# Altium schematic symbol library Schlib1.SchLib: 95 symbols (part 1 of 2)
Pins are listed as number, name and electrical type; pins without a type are passive.

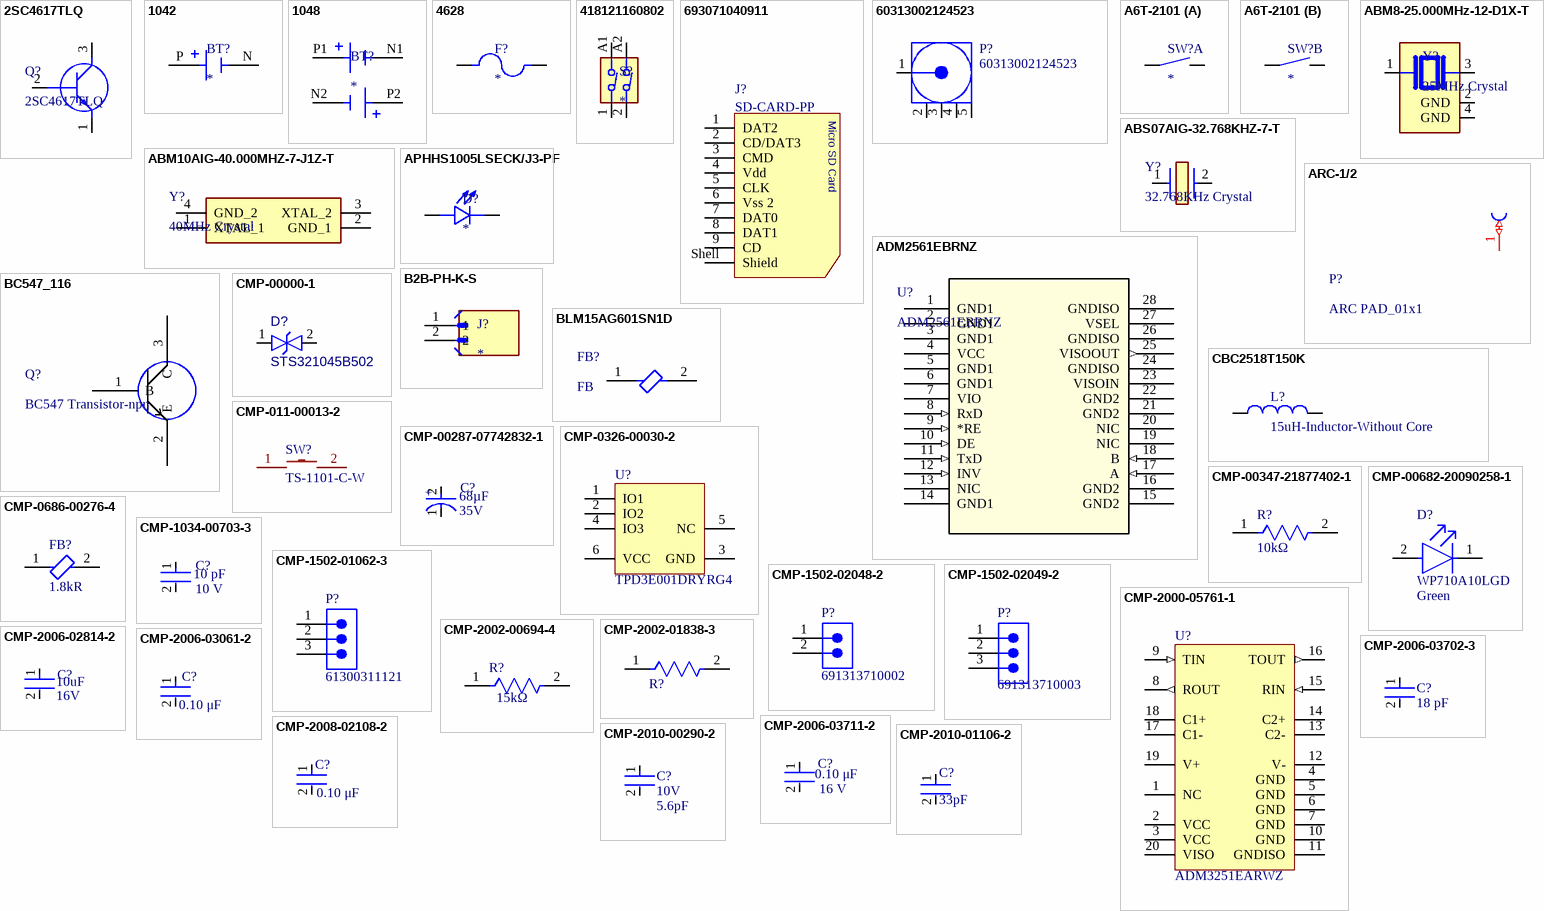
[diagram p0: symbols 2SC4617TLQ to CMP-2010-01106-2]

## 2SC4617TLQ
designator Q?
Transistor BJT NPN-2SC4617TLQ; Manufacturer_Name: ROHM Semiconductor; Datasheet Link: https://fscdn.rohm.com/en/products/databook/datasheet/discrete/transistor/bipolar/2sc4081u3t106r-e.pdf; Height: 0.8mm; Manufacturer_Part_Number: 2SC4617TLQ; Mouser Part Number: 755-2SC4617TLQ; Mouser Price/Stock: https://www.mouser.co.uk/ProductDetail/ROHM-Semiconductor/2SC4617TLQ?qs=4kLU8WoGk0sY2QY7rUsyQw%3D%3D
footprint 2SC4617TLQ
pins: 1 E, 2 B, 3 C

## 1042
designator BT?
SMT Holder for 18650 Battery; MF: Keystone Electronics Corp.; MP: 1042; SnapEDA_Link: https://www.snapeda.com/parts/1042/Keystone/view-part/?ref=snap; Package: NON STANDARD-5 Keystone; Value: *; Check_prices: https://www.snapeda.com/parts/1042/Keystone/view-part/?ref=eda
footprint BAT_1042
pins: N NEG, P POS

## 1048
designator BT?
Battery Holder (Open) 18650 2 Cell SMD (SMT) Tab; MF: Keystone Electronics; MP: 1048; SnapEDA_Link: https://www.snapeda.com/parts/1048/Keystone/view-part/?ref=snap; Package: None; Value: *; Check_prices: https://www.snapeda.com/parts/1048/Keystone/view-part/?ref=eda
footprint BAT_1048
pins: N1, N2, P1, P2

## 4628
designator F?
5mm Slim Line Fuse holder; MF: Keystone; MP: 4628; SnapEDA_Link: https://www.snapeda.com/parts/4628/Keystone/view-part/?ref=snap; Package: None; Value: *; Check_prices: https://www.snapeda.com/parts/4628/Keystone/view-part/?ref=eda
footprint FUSE_4628
pins: 1, 2

## 418121160802
designator S?
Dip Switch SPST 2 Position Surface Mount Slide (Standard) Actuator 25mA 24VDC; MF: WÃ¼rth Elektronik; MP: 418121160802; SnapEDA_Link: https://www.snapeda.com/parts/418121160802/W%25C3%25BCrth+Elektronik+Midcom/view-part/?ref=snap; Package: None; Value: *; Check_prices: https://www.snapeda.com/parts/418121160802/W%25C3%25BCrth+Elektronik+Midcom/view-part/?ref=eda
footprint 418121160802
pins: 1, 2, A1, A2

## 693071040911
designator J?, comment SD-CARD-PP
WR-CRD SD Card Connector Push & Push Socket, 9 pins; Manufacturer Part Number: 693071040911; Manufacturer: Wurth Elektronik; Durability: 10000 Mating cycles; Category: Input/Output Connector; Match Code: WR-CRD; ComponentLink1Description: Website Link; ComponentLink1URL: https://www.we-online.com/redexpert/article/693071040911?ad; ComponentLink2Description: Datasheet Link; ComponentLink2URL: https://www.we-online.com/redexpert/spec/693071040911?ad; Mount: Surface Mount; Min Operating Temperature: -25 °C; Max Operating Temperature: 85 °C; Packaging: Tape and Reel; Application: Micro SD Card; Gender: Socket; Number of Pins: 9; Type: Push & Push
footprint 693071040911
pins: 1 DAT2, 2 CD/DAT3, 3 CMD, 4 Vdd, 5 CLK, 6 Vss 2, 7 DAT0, 8 DAT1, 9 CD, Shell Shield

## 60313002124523
designator P?
WR-SMA Connector, PCB THT Plug, DC~18GHz, 50Ω; Manufacturer: Wurth Elektronik; Center Contact Diameter: 1.27mm; Connector Type: SMA; Interface Type: MIL-STD-348; Manufacturer Part Number: 60313002124523; Category: Coaxial Connector; Match Code: WR-SMA; ComponentLink1Description: Website Link; ComponentLink1URL: https://www.we-online.com/redexpert/article/60313002124523?ad; ComponentLink2Description: Datasheet Link; ComponentLink2URL: https://www.we-online.com/redexpert/spec/60313002124523?ad; Mount: Through Hole; Min Operating Temperature: -65°C; Max Operating Temperature: 165°C; Packaging: Tray; Frequency Range: DC~18GHz; Gender: Plug; Impedance: 50Ω; Orientation: Right Angle
footprint 60313002124523
pins: 1 Signal "Signal Pin", 2 GND, 3 GND, 4 GND, 5 GND

## A6T-2101
designator SW?
Dip Switch SPST 2 Position Through Hole Slide (Standard) Actuator 25mA 24VDC; MF: Omron Electronics; MP: A6T-2101; Package: None; Check_prices: https://www.snapeda.com/parts/A6T-2101/Omron%20Electronics%20Inc-EMC%20Div/view-part/404545/?ref=eda; Value: *; Price: None; Purchase-URL: https://pricing.snapeda.com/search/part/A6T-2101/?ref=eda; Availability: Warning; SnapEDA_Link: https://www.snapeda.com/parts/A6T-2101/Omron%20Electronics%20Inc-EMC%20Div/view-part/404545/?ref=snap
footprint A6T-2101
part A pins: 1 2, 2 1
part B pins: 1 2, 2 1

## ABM8-25.000MHz-12-D1X-T
designator Y?, comment 25MHz Crystal
Crystal 25MHz Â±10ppm (Tol) Â±20ppm (Stability) 12pF FUND 50Ohm 4-Pin Ultra Mini-CSMD T/R; MF: Abracon Corporation; MP: ABM8-25.000MHZ-12-D1X-T; SnapEDA_Link: https://www.snapeda.com/parts/ABM8-25.000MHZ-12-D1X-T/Abracon/view-part/?ref=snap; Package: NON-STANDARD-4 ABRACON; Value: *; Check_prices: https://www.snapeda.com/parts/ABM8-25.000MHZ-12-D1X-T/Abracon/view-part/?ref=eda
footprint XTAL_ABM8-25.000MHz-12-D1X-T
pins: 1, 2 GND (power), 3 2, 4 GND (power)

## ABM10AIG-40.000MHZ-7-J1Z-T
designator Y?, comment 40MHz Crystal
Crystal or Oscillator-40MHz; Manufacturer_Name: ABRACON; Manufacturer_Part_Number: ABM10AIG-40.000MHZ-7-J1Z-T; Datasheet Link: https://abracon.com/AIGcrystals/ABM10AIG.pdf; Height: 0.65mm; Mouser Part Number: 815-M10AIG-40-7J1ZT; Mouser Price/Stock: https://www.mouser.co.uk/ProductDetail/ABRACON/ABM10AIG-40.000MHZ-7-J1Z-T?qs=uwxL4vQweFM9TX6A4vx2XA%3D%3D; Arrow Part Number: ABM10AIG-40.000MHZ-7-J1Z-T; Arrow Price/Stock: https://www.arrow.com/en/products/abm10aig-40.000mhz-7-j1z-t/abracon
footprint ABM10AIG
pins: 1 XTAL_1, 2 GND_1, 3 XTAL_2, 4 GND_2

## ABS07AIG-32.768KHZ-7-T
designator Y?, comment 32.768KHz Crystal
Crystal or Oscillator 32.768khz; Manufacturer_Name: ABRACON; Manufacturer_Part_Number: ABS07AIG-32.768KHZ-7-T; Datasheet Link: https://www.abracon.com/AIGcrystals/ABS07AIG.pdf; Height: 0.9mm; Mouser Part Number: 815-S07AIG-32.768-7T; Mouser Price/Stock: https://www.mouser.co.uk/ProductDetail/ABRACON/ABS07AIG-32.768KHZ-7-T?qs=gG6m684uYP6cjiHguEKjtw%3D%3D; Arrow Part Number: ABS07AIG-32.768KHZ-7-T; Arrow Price/Stock: https://www.arrow.com/en/products/abs07aig-32.768khz-7-t/abracon?utm_currency=USD&region=nac
footprint ABS07AIG
pins: 1, 2

## ADM2561EBRNZ
designator U?
3 kV RMS Signal and Power Isolated RS-485 Transceiver with Â±15 kV IEC ESD; Manufacturer_Name: Analog Devices Inc; Copyright: Copyright (C) 2025 Ultra Librarian. All rights reserved.; Manufacturer_Part_Number: ADM2561EBRNZ; Datasheet: https://www.analog.com/media/en/technical-documentation/data-sheets/adm2561e_adm2563e_adm2565e_adm2567e.pdf; RefDes: RefDes; Type: Type
footprint RN-28-1_ADI-M
pins: 1 GND1 (power), 2 GND1 (power), 3 GND1 (power), 4 VCC (power), 5 GND1 (power), 6 GND1 (power), 7 VIO (power), 8 RxD (in), 9 *RE (in), 10 DE (in), 11 TxD (in), 12 INV (in), 13 NIC, 14 GND1 (power), 15 GND2 (power), 16 GND2 (power), 17 A (in), 18 B (in), 19 NIC (power), 20 NIC, 21 GND2 (power), 22 GND2 (power), 23 VISOIN (power), 24 GNDISO (power), 25 VISOOUT (out), 26 GNDISO (power), 27 VSEL (power), 28 GNDISO (power)

## APHHS1005LSECK/J3-PF
designator D?
Red 625nm LED Indication - Discrete 1.8V 0402 (1005 Metric); MF: Kingbright; MP: APHHS1005LSECK/J3-PF; SnapEDA_Link: https://www.snapeda.com/parts/APHHS1005LSECK/J3-PF/Kingbright/view-part/?ref=snap; Package: 0402 Kingbright Corporation; Value: *; Check_prices: https://www.snapeda.com/parts/APHHS1005LSECK/J3-PF/Kingbright/view-part/?ref=eda
footprint LED_APHHS1005LSECK/J3-PF
pins: 1 C, 2 A

## ARC-1/2
designator P?, comment ARC PAD_01x1
Arc pad     inner radius-5mil
footprint ARC-1/2 (Arc pad     inner radius-5mil 01x1)
pins: 1 (io) "Arc pas 01x1"

## B2B-PH-K-S
designator J?
Connector Header Through Hole 2 position 0.079 (2.00mm); MF: JST Sales America Inc.; MP: B2B-PH-K-S; SnapEDA_Link: https://www.snapeda.com/parts/B2B-PH-K-S/JST/view-part/?ref=snap; Package: None; Value: *; Check_prices: https://www.snapeda.com/parts/B2B-PH-K-S/JST/view-part/?ref=eda
footprint JST_B2B-PH-K-S
pins: 1, 2

## BC547_116
designator Q?, comment BC547 Transistor-npn
BC547-116 Transistor-NPN
footprint SOT95P230X110-3N
pins: 1 B, 2 E, 3 C

## BLM15AG601SN1D
designator FB?, comment FB
600 Ohms @ 100 MHz 1 Ferrite Bead 0402 (1005 Metric) 300mA 520mOhm; Manufacturer_Name: Murata Electronics; Manufacturer_Part_Number: BLM15AG601SN1D; Datasheet Link: http://www.murata.com/~/media/webrenewal/support/library/catalog/products/emc/emifil/c31e.ashx?la=en-gb; Height: 0.55mm; Mouser Part Number: 81-BLM15AG601SN1D; Mouser Price/Stock: https://www.mouser.co.uk/ProductDetail/Murata-Electronics/BLM15AG601SN1D?qs=%2FjCH2pcB5WLSIF5DG9Nbqw%3D%3D; Arrow Part Number: BLM15AG601SN1D; Arrow Price/Stock: https://www.arrow.com/en/products/blm15ag601sn1d/murata-manufacturing?region=nac
footprint NFZ15SG152SN10B
pins: 1, 2

## CBC2518T150K
designator L?, comment 15uH-Inductor-Without Core
15 ÂµH Unshielded Drum Core, Wirewound Inductor 500 mA 845mOhm Max 1007 (2518 Metric); MF: Taiyo Yuden; MP: CBC2518T150K; SnapEDA_Link: https://www.snapeda.com/parts/CBC2518T150K/Taiyo+Yuden/view-part/?ref=snap; Package: 2518 Taiyo Yuden; Value: *; Check_prices: https://www.snapeda.com/parts/CBC2518T150K/Taiyo+Yuden/view-part/?ref=eda
footprint INDC2518X200N
pins: 1, 2

## CMP-00000-1
designator D?, comment STS321045B502
Trans Voltage Suppressor Diode, 2000W, 4.5V V(RWM), Bidirectional, 1 Element, Silicon; Value: 4.5V V(VWM)
footprint DIOM5436X261N
pins: 1 A, 2 A

## CMP-011-00013-2
designator SW?, comment TS-1101-C-W
Tactitle Switch-2-PAD-SMD; Manufacturer: XKB Connectivity(????); Origin Footprint: SW-SMD_L6.0-W3.3-LS8.0; Add into BOM: yes; Pins: 2; Symbol: TS-1101-C-W; Manufacturer Part: TS-1101-C-W; JLCPCB Part Class: Extended Part; Supplier Part: C318938; Design Item ID: TS-1101-C-W; Component Type: Standard; Device: TS-1101-C-W; Source: 4G_GATEWAY_ETHERNET.SCHLIB; link: https://lcsc.com/eda_search?q=C318938&amp;%26type=1&amp;ref=editor; Convert to PCB: yes
footprint TS1101CW
pins: 1, 2

## CMP-00287-07742832-1
designator C?, comment Voltage Rating (DC): 35V  Capacitance: 68µF  (hidden comment: EEEFPV680XAP)
EEEFPV680XAP Aluminum Electrolytic Capacitor, 68 uF, 35 V, ± 20%, 2000 hours @ 105°C, Radial Can - SMD; NexarPartId: 7742832; Ripple Current (AC): 600mA; ESR (Equivalent Series Resistance): 160mΩ; Leakage Current: 16.4µA; Polarity: Polar; Dielectric Material: Aluminium; Termination: SMD/SMT; Lead Free: Lead Free; Height: 7.7mm; Voltage: 35V; Life (Hours): 2000hours; Contact Plating: Tin; Lifecycle Status: Production; Diameter: 6.3mm; Voltage Rating: 35V; Case/Package: Radial; Max Operating Temperature: 105°C; Tolerance: 20%; Schedule B: 8532220020; Mount: PCB, Surface Mount; Radiation Hardening: No; REACH SVHC: No SVHC; Min Operating Temperature: -55°C; Height - Seated (Max): 7.6962mm; RoHS: Compliant; Ripple Current: 600mA; Number of Pins: 2; Packaging: Tape & Reel; Material: Aluminium; Lead Pitch: 1.8mm; Length: 8mm
footprint FP-FPD8-MFG (Aluminum Electrolytic Capacitor, 68 uF, 35 V, ± 20%, 2000 hours @ 105°C, Radial Can - SMD)
pins: 1 C, 2 A
text: +

## CMP-0326-00030-2
designator U?, comment TPD3E001DRYRG4
Low-Capacitance + / - 15 kV ESD-Protection Array for High-Speed Data Interfaces, 3 Channels, -40 to +85 degC, 6-pin SON (DRY), Green (RoHS & no Sb/Br); Manufacturer: Texas Instruments; IEC 61000-4-2 Air-Gap(+/- kV): 15; Breakdown Voltage(Min)(V): 11; SubFamily: ESD Solution; IO Capacitance(Typ)(pF): 1.5; IEC 61000-4-2 Contact(+/- kV): 8; USB High Speed: TRUE; IO Leakage Current(nA): 1; ComponentLink2Description: Datasheet; Mounting Technology: Surface Mount; PartNumber: TPD3E001DRYRG4; ComponentLink1Description: Manufacturer URL; Eco-Plan: Green (RoHS & no Sb/Br); ComponentLink1URL: http://www.ti.com/; PackageDescription: 6-Pin Plastic Small Outline No-Lead, 1 x 1.45 x 0.6 mm Body, 0.5 mm Pitch; PackageVersion: revF, Dec-2011; PackageReference: DRY0006A; DatasheetVersion: SLLS683D; ComponentLink3Description: URL Link1; ComponentLink3URL: SamplesURL:http://www.ti.com/product/tpd3e001#samples; ComponentLink2URL: http://www.ti.com/general/docs/lit/getliterature.tsp?genericPartNumber=TPD3E001&fileType=pdf
footprint DRY0006A
pins: 1 IO1 "ESD-protected channel", 2 IO2 "ESD-protected channel", 3 GND (power) "Ground", 4 IO3 "ESD-protected channel", 5 NC "No connection. Not internally connected.", 6 VCC (power) "Power-supply input. Bypass VCC to GND with a 0.1-uF ceramic capacitor."

## CMP-00347-21877402-1
designator R?, comment Resistance: 10kΩ  (hidden comment: RGC0402DTC10K0)
RGC0402DTC10K0 Res Thick Film 0402 10K Ohm 0.5% 1/16W ±50ppm/°C Molded SMD SMD Paper T/R; NexarPartId: 21877402; Power Rating: 63mW; Schedule B: 8533210045, 8533210045; Max Operating Temperature: 150°C; Case/Package: 0402; RoHS: Compliant; Min Operating Temperature: -55°C; Contact Plating: Tin; Tolerance: 0.5%; Composition: Thick Film; Mount: Surface Mount; Temperature Coefficient: 50ppm/°C
footprint FP-RGC0402-MFG
pins: 1, 2

## CMP-00682-20090258-1
designator D?, comment WP710A10LGD  Illumination Color: Green
WP710A10LGD LED Thru-Hole PCB Green T-1 3mm Green Lens 2 mA 568 nm 2 mcd Round; NexarPartId: 20090258; Number of LEDs: 1; Max Junction Temperature (Tj): 110°C; Viewing Angle: 40°; Reverse Voltage: 5V; Forward Voltage: 1.9V; Dominant Wavelength: 568nm; Luminous Intensity: 2mcd; Power Rating: 62.5mW; Forward Current: 2mA; Lens Style: Diffused, Dome, Round, Tinted; Height: 4.6mm; Mount: Through Hole; Number of Pins: 3; RoHS: Compliant; Max Operating Temperature: 85°C; Min Operating Temperature: -40°C; Lens Color: Green; Wavelength: 568nm; Color: Green; Schedule B: 8541402000, 8541402000; Case/Package: Radial; Power Dissipation: 62.5mW; Lead Free: Lead Free; Test Current: 2mA
footprint FP-WP710A10LGD-MFG
pins: 1 C, 2 A

## CMP-0686-00276-4
designator FB?, comment Impedance: 1.8kR  (hidden comment: BLM15HD182SN1D)
Chip Ferrite Bead, 0402, 1800Ω @ 100MHz, 2.2Ω, 25%, 200mA; Number of Lines: 1; DC Resistance (DCR): 2.2R; Lead Free: Lead Free; Material: Ferrite; REACH SVHC: No SVHC; Current Rating: 200mA; Length: 1mm; Width: 0.5mm; Depth: 0.5mm; Max Operating Temperature: 125°C; Max DC Current: 200mA; Max Current Rating: 200mA; Case Code (Metric): 1005; Package Quantity: 1; Radiation Hardening: No; Number of Pins: 2; Tolerance: 25%; Number of Circuits: 1; Test Frequency: 100MHz; Termination: SMD/SMT; Military Standard: Not; Core Material: Ferrite; Height: 0.5mm; Case Code (Imperial): 0402; Packaging: Tape and Reel; Case/Package: 0402; DC Current: 200mA; Min Operating Temperature: -55°C
footprint FP-BLM15-0_05-MFG
pins: 1, 2

## CMP-1034-00703-3
designator C?, comment Capacitance: 10 pF  Voltage Rating: 10 V  (hidden comment: C0402C100K8GACTU)
10 pF ±10% 10V Ceramic Capacitor C0G, NP0 0402 (1005 Metric); Manufacturer: Kemet; Tolerance: 0.1; Value: 10 pF; Temperature Coefficient: 15%; Digikey Description: CAP CER 10PF 10V NP0 0402; Automotive: No; Octopart: https://octopart.com/c0402c100k8gactu-kemet-12592193; Device Class L1: Passive Components; Temperature Characteristic: C0G; Ipc Land Pattern Name: CAPC10050X50; RoHS: TRUE; Mouser Description: Capacitor, Ceramic, 10Pf, 10Vdc, 10-% Tol, 10+% Tol, C0g-Tc Code, -30, 30Ppm-Tc; Package: C0402-BB; Device Class L2: Capacitors; Lead Free: Yes; Category: Cap; Temperature Range High: +125°C; Material: Ceramic; Manufacturer Part Number: C0402C100K8GACTU; ComponentLink2Description: Datasheet; Temperature: -55°C to +125°C; Height: 0.55mm; Temperature Range Low: -55°C; Device Class L3: Ceramic Capacitors; ComponentLink2URL: https://content.kemet.com/datasheets/KEM_C1002_X7R_SMD.pdf
footprint FP-C0402-BB-MFG
pins: 1, 2

## CMP-1502-01062-3
designator P?, comment 61300311121
Connector Header Through Hole 3 position 0.100" (2.54mm); NexarPartId: 32855521; Current Rating: 3A; Voltage Rating: 250V; Number of Positions: 3; Contact Resistance: 20mΩ; Connector Type: Male Pin; Gender: Male; REACH SVHC: Unknown; Packaging: Bulk; Contact Material: Copper; Pitch: 2.54mm; Min Operating Temperature: -40°C; Number of Rows: 1; Orientation: Vertical; RoHS: Compliant; Contact Plating: Gold; Max Operating Temperature: 105°C; Mount: Through Hole; Height: 8.94mm; Operating Supply Voltage: 250V; Number of Pins: 3; Contact Mating Length: 5.9944mm; Number of Contacts: 3; Color: Black; Lead Free: Lead Free; Lead Pitch: 2.54mm; Termination: Solder
footprint CONN_SD-42375-001_M240_03_MOL (3-PIN HEADER 2.54MM PITCH)
pins: 1, 2, 3

## CMP-1502-02048-2
designator P?, comment 691313710002
2 Position Terminal Block Header, Male Pins, Shrouded (4 Side) 0.197" (5.00mm) 90°, Right Angle Through Hole; NexarPartId: 18818334; Current Rating: 20A; Pitch: 5.0038mm; Number of Contacts: 2; Connector Type: PCB, Terminal Block; Voltage Rating: 300V; Number of Levels: 1; REACH SVHC: Unknown; Max Operating Temperature: 105°C; Termination: Solder; Number of Pins: 2; Contact Material: Brass; Min Operating Temperature: -40°C; Color: Green; Height: 8.7mm; Length: 12.5mm; Mount: Through Hole; Number of Rows: 1; RoHS: Compliant; Number of Positions Per Level: 2; Voltage: 300V; Width: 12mm; Packaging: Box; Current: 20A; Lead Pitch: 5mm; Gender: Male
footprint 691313710002 (Serie 3137 - 5.00mm Close Horizontal PCB Header WR-TBL, 2 pin)
pins: 1, 2

## CMP-1502-02049-2
designator P?, comment 691313710003
3 Position Terminal Block Header, Male Pins, Shrouded (4 Side) 0.197" (5.00mm) 90°, Right Angle Through Hole; NexarPartId: 18818335; Connector Type: PCB, Terminal Block; Current Rating: 20A; Number of Contacts: 3; Voltage: 300V; Pitch: 5.0038mm; Number of Levels: 1; Packaging: Box; REACH SVHC: Unknown; Mount: Through Hole; RoHS: Compliant; Termination: Solder; Color: Green; Max Operating Temperature: 105°C; Height: 8.7mm; Lead Pitch: 5mm; Current: 20A; Width: 17mm; Voltage Rating: 300V; Length: 12.5mm; Number of Rows: 1; Contact Material: Brass; Gender: Male; Number of Positions Per Level: 3; Number of Pins: 3; Min Operating Temperature: -40°C
footprint 691313710003 (Serie 3137 - 5.00mm Close Horizontal PCB Header WR-TBL, 3 pin)
pins: 1, 2, 3

## CMP-2000-05761-1
designator U?, comment ADM3251EARWZ
Isolated, Single-Channel RS-232 Line Driver/Receiver, 5 V, -40 to 85 degC, 20-Pin SOIC (RW-20), RoHS, Tube; Manufacturer: Analog Devices; Single Supply Voltage (Typ): 5V; Supply Current: 145mA; Number of Transceivers: 1; Single Supply Voltage (Min): 4.5V; Data Rate: 460Kbps; Data Transmission Topology: Point-to-Point; Package Version: 060706-A, 06/2006; Single Supply Voltage (Max): 5.5V; Dual Supply Voltage (Min): NotRequiredV; Power Supply Requirement: Single; Receiver Signal Type: Single-Ended; Interface Circuit Standard 1: EIA/TIA-232-E/RS-232; Manufacturer URL: http://www.analog.com/; Pin Count: 20; Package URL: http://www.analog.com/static/imported-files/packages/233848RW_20.pdf; Operating Temperature Classification: Industrial; Datasheet Version: Rev. G, 10/2013; Packaging: Rail/Tube; Number of Receivers: 1; Package Reference: RW-20; Dual Supply Voltage (Max): NotRequiredV; Mounting: SurfaceMount; Dual Supply Voltage (Typ): NotRequiredV; Package Type: SOICW; Number of Transmitters: 1; Datasheet URL: http://www.analog.com/media/en/technical-documentation/data-sheets/ADM3251E.pdf; Transmitter Signal Type: Single-Ended; Operating Temp Range: -40Cto85C; Package Description: 20-Pin Standard Small Outline Package, Body 12.8 x 7.5 mm, Pitch 1.27 mm; Mounting Technology: SurfaceMount
footprint ADI-RW-20_L (SOIC, 20-Leads, Body 12.8x7.5mm, Pitch 1.27mm, IPC High Density)
pins: 1 NC "No Connect. This pin should always remain unconnected.", 2 VCC (power) "Power Supply Input. A 0.1 uF decoupling capacitor is required between VCC and ground. When a voltage between 4.5 V and 5.5 V is applied to the VCC pin, the integrated dc-to-dc converter is enabled. If this voltage is lowered (See Datasheet)", 3 VCC (power) "Power Supply Input. A 0.1 uF decoupling capacitor is required between VCC and ground. When a voltage between 4.5 V and 5.5 V is applied to the VCC pin, the integrated dc-to-dc converter is enabled. If this voltage is lowered (See Datasheet)", 4 GND (power) "Ground.", 5 GND (power) "Ground.", 6 GND (power) "Ground.", 7 GND (power) "Ground.", 8 ROUT (out) "Receiver Output. This pin outputs CMOS logic levels.", 9 TIN (in) "Transmitter (Driver) Input. This pin accepts CMOS levels.", 10 GND (power) "Ground.", 11 GNDISO (power) "Ground Reference for Isolated RS-232 Side.", 12 V- (power) "Internally Generated Negative Supply.", 13 C2- "Positive and Negative Connections for Charge Pump Capacitors. External Capacitor C2 is connected between these pins; a 0.1 uF capacitor is recommended, but larger capacitors up to 10 uF can be used.", 14 C2+ "Positive and Negative Connections for Charge Pump Capacitors. External Capacitor C2 is connected between these pins; a 0.1 uF capacitor is recommended, but larger capacitors up to 10 uF can be used.", 15 RIN (in) "Receiver Input. This input accepts RS-232 signal levels.", 16 TOUT (out) "Transmitter (Driver) Output. This outputs RS-232 signal levels.", 17 C1- "Positive and Negative Connections for Charge Pump Capacitors. External Capacitor C1 is connected between these pins; a 0.1 uF capacitor is recommended, but larger capacitors up to 10 uF can be used.", 18 C1+ "Positive and Negative Connections for Charge Pump Capacitors. External Capacitor C1 is connected between these pins; a 0.1 uF capacitor is recommended, but larger capacitors up to 10 uF can be used.", 19 V+ (power) "Internally Generated Positive Supply.", 20 VISO (power) "Isolated Supply Voltage for Isolator Secondary Side. A 0.1 uF decoupling capacitor is required between VISO and ground. When the integrated dc-to-dc converter is enabled, the VISO pin should not be used to power external (See Datasheet)"

## CMP-2002-00694-4
designator R?, comment value 15kΩ  (hidden comment: ERJ-2RKF1502X)
15 kOhms ±1% 0.1W, 1/10W Chip Resistor 0402 (1005 Metric) Automotive AEC-Q200 Thick Film; Manufacturer: Panasonic; Automotive Grade: Grade 0; Voltage Rating: 50V; Temperature Coefficient: 100ppm/°C; ComponentLink2URL: https://industrial.panasonic.com/cdbs/www-data/pdf/RDA0000/AOA0000C304.pdf; Automotive: Yes; Temperature: -55°C to +155°C; Height: 0.4mm; Digikey Description: RES SMD 15K OHM 1% 1/10W 0402; Category: Res; Device Class L2: Resistors; Device Class L1: Passive Components; Package: ERJ2R; Temperature Range Low: -55°C; Tolerance: 1%; Series: ERJ; Manufacturer Part Number: ERJ-2RKF1502X; Footprint Url: https://b2b-api.panasonic.eu/file_stream/pids/fileversion/1180; Mouser Description: Res Thick Film 1.0 x 0.5 mm 15K Ohm 1% 0.1W(1/10W) 100ppm/ C Molded SMD Punched Carrier T/R; Composition: Thick Film; Lead Free: Yes; Device Class L3: Chip SMD Resistors; Resistance: 15kΩ; Octopart: https://octopart.com/erj-2rkf1502x-panasonic-55404985; RoHS: TRUE; Power Rating: 0.1W; Temperature Range High: +155°C; ComponentLink2Description: Datasheet
footprint FP-ERJ2R-MFG
pins: 1, 2

## CMP-2002-01838-3
designator R?, comment AC0402JR-070RL  (value not drawn)
0 Ohms Jumper Chip Resistor 0402 (1005 Metric) Automotive AEC-Q200, Moisture Resistant Thick Film; Resistance: 0R; Temperature Coefficient: 200ppm/°C; Voltage Rating: 50V; Max Power Dissipation: 63mW; Power Rating: 62.5mW; Tolerance: 5%; Min Operating Temperature: -55°C; RoHS Compliant: Yes; Width: 0.02inch; Height: 0.015inch; Size Code: 0402; Lead Free: Lead Free; Termination: SMD/SMT; Ratings: AEC-Q200; Package Quantity: 1; Number of Terminations: 2; Case Code (Metric): 1005; Case Code (Imperial): 0402; Resistor Type: Thick Film; Features: Moisture Resistant; Length: 0.039inch; Max Operating Temperature: 155°C; Packaging: Tape and Reel; Series: AC; Case/Package: 0402
footprint FP-AC0402-IPC_A
pins: 1, 2

## CMP-2006-02814-2
designator C?, comment Capacitance: 10uF  Voltage Rating: 16V  (hidden comment: GRM188R61C106MA73D)
Chip Multilayer Ceramic Capacitors for General Purpose, 0603, 10uF, X5R, 15%, 20%, 16V; Width: 0.031inch; Case/Package: 0603; Mount: Surface Mount; Depth: 0.8mm; REACH SVHC: No SVHC; Lead Free: Lead Free; Tolerance: 20%; Case Code (Imperial): 0603; Height: 0.8mm; Case Code (Metric): 1608; Thickness: 0.031inch; Voltage: 16V; Voltage Rating (DC): 16V; Length: 1.6mm; Max Operating Temperature: 85°C; Dielectric: X5R; Min Operating Temperature: -55°C; Packaging: Tape and Reel; Package Quantity: 4000
footprint FP-GRM188-0_2-IPC_A
pins: 1, 2

## CMP-2006-03061-2
designator C?, comment Capacitance: 0.10 μF  (hidden comment: C0603C104K5RACTU)
0.1 µF ±10% 50V Ceramic Capacitor X7R 0603 (1608 Metric); Manufacturer: KEMET; Tolerance: 0.1; Temperature Coefficient: 30ppm/°C; Automotive Grade: Grade 1; Value: 0.10 μF; Temperature: -55°C to +125°C; RoHS: TRUE; Material: Ceramic; Temperature Range High: +125°C; Lead Free: Yes; Octopart: https://octopart.com/c0603c104k5ractu-kemet-139244; Digikey Description: CAP CER 0.1UF 50V X7R 0603; Category: Cap; Package: C0603C-CF; ComponentLink2Description: Datasheet; Temperature Range Low: -55°C; Device Class L1: Passive Components; Voltage Rating: 50 V; Automotive: Yes; Device Class L3: Ceramic Capacitors; ComponentLink2URL: https://api.kemet.com/component-edge/download/datasheet/C0603C100J5GACAUTO.pdf; Device Class L2: Capacitors; Manufacturer Part Number: C0603C104K5RACTU; Temperature Characteristic: X7R; Height: 0.87mm
footprint FP-C0603C-CF-MFG
footprint FP-C0603C-CF-IPC_C
footprint FP-C0603C-CF-IPC_B
footprint FP-C0603C-CF-IPC_A
pins: 1, 2

## CMP-2006-03702-3
designator C?, comment value 18 pF  (hidden comment: C0603C180J5GACTU)
18 pF ±5% 50V Ceramic Capacitor C0G, NP0 0603 (1608 Metric); Manufacturer: KEMET; Automotive Grade: Grade 1; Tolerance: 0.05; Temperature Coefficient: 30ppm/°C; ComponentLink2URL: https://api.kemet.com/component-edge/download/datasheet/C0603C100J5GACAUTO.pdf; Capacitance: 18 pF; Device Class L3: Ceramic Capacitors; Digikey Description: CAP CER 18PF 50V C0G/NP0 0603; RoHS: TRUE; Category: Cap; Temperature Range Low: -55°C; Lead Free: Yes; Device Class L1: Passive Components; Device Class L2: Capacitors; Package: C0603C-CF; Manufacturer Part Number: C0603C180J5GACTU; Mouser Description: Capacitor; Ceramic; Cap; 18.0pF; Tol 5%; SMT; Vol-Rtg 50V; C0G; Tape and Reel; Temperature Range High: +125°C; Temperature: -55°C to +125°C; Octopart: https://octopart.com/c0603c180j5gactu-kemet-97992; ComponentLink2Description: Datasheet; Temperature Characteristic: C0G; Automotive: Yes; Material: Ceramic; Voltage Rating: 50 V; Height: 0.87mm
footprint FP-C0603C-CF-MFG
footprint FP-C0603C-CF-IPC_C
footprint FP-C0603C-CF-IPC_B
footprint FP-C0603C-CF-IPC_A
pins: 1, 2

## CMP-2006-03711-2
designator C?, comment Voltage Rating: 16 V  Capacitance: 0.10 μF  (hidden comment: C0603C104K4RACAUTO)
0.1 µF ±10% 16V Ceramic Capacitor X7R 0603 (1608 Metric); Manufacturer: KEMET; Temperature Coefficient: 30ppm/°C; Value: 0.10 μF; Tolerance: 0.1; Automotive Grade: Grade 1; Device Class L2: Capacitors; Device Class L3: Ceramic Capacitors; Package: C0603C-CF; Temperature: -55°C to +125°C; Octopart: https://octopart.com/c0603c104k4racauto-kemet-16435919; Height: 0.87mm; RoHS: TRUE; Temperature Characteristic: X7R; Lead Free: Yes; Automotive: Yes; Material: Ceramic; Device Class L1: Passive Components; Mouser Description: Multilayer Ceramic Capacitors MLCC - SMD/SMT 0.1uF 16volts 10% X7R AUTO; Temperature Range High: +125°C; Temperature Range Low: -55°C; ComponentLink2Description: Datasheet; Manufacturer Part Number: C0603C104K4RACAUTO; Digikey Description: CAP CER 0.1UF 16V X7R 0603; ComponentLink2URL: https://api.kemet.com/component-edge/download/datasheet/C0603C100J5GACAUTO.pdf; Category: Cap
footprint FP-C0603C-CF-MFG
pins: 1, 2

## CMP-2008-02108-2
designator C?, comment Capacitance: 0.10 μF  (hidden comment: C0402C104K4RACTU)
0.1 µF ±10% 16V Ceramic Capacitor X7R 0402 (1005 Metric); Manufacturer: Kemet; Value: 0.10 μF; Tolerance: 0.1; Temperature Coefficient: 15%; Voltage Rating: 16 V; Package: C0402-BB; Automotive: No; Ipc Land Pattern Name: CAPC10050X50; Device Class L3: Ceramic Capacitors; Octopart: https://octopart.com/c0402c104k4ractu-kemet-94158; Temperature Characteristic: X7R; Mouser Description: Cap Ceramic 0.1uF 16V X7R 10% SMD 0402 125?C Paper T/R - Tape and Reel (Alt: C0402C104K4RAC TU); ComponentLink2Description: Datasheet; Temperature Range Low: -55°C; RoHS: TRUE; Device Class L1: Passive Components; Manufacturer Part Number: C0402C104K4RACTU; Material: Ceramic; Temperature Range High: +125°C; Device Class L2: Capacitors; ComponentLink2URL: https://content.kemet.com/datasheets/KEM_C1002_X7R_SMD.pdf; Category: Cap; Height: 0.55mm; Temperature: -55°C to +125°C; Lead Free: Yes; Digikey Description: CAP CER 0.1UF 16V X7R 0402
footprint FP-C0402-BB-MFG
footprint FP-C0402-BB-IPC_C
footprint FP-C0402-BB-IPC_B
footprint FP-C0402-BB-IPC_A
pins: 1, 2

## CMP-2010-00290-2
designator C?, comment Voltage Rating: 10V  Capacitance: 5.6pF  (hidden comment: 0201ZK5R6BBSTR)
5.6 pF Thin Film Capacitor 10 V 0201 (0603 Metric); Manufacturer: AVX Corporation; Automotive Grade: Grade 1; Life: 1000Hours; Value: 5.6pF; Tolerance: 0.1pF; Material: Silicon; Temperature Coefficient: 60ppm/°C; Manufacturer Part Number: 0201ZK5R6BBSTR; Temperature: -55°C to +125°C; Device Class L1: Passive Components; Device Class L3: Silicon; ComponentLink2URL: http://datasheets.avx.com/Accu-P.pdf; Temperature Range Low: -55°C; Device Class L2: Capacitors; Ipc Land Pattern Name: CAPC6033X23; Lead Free: Yes; Mouser Description: Multilayer Ceramic Capacitors MLCC - SMD/SMT 10V 5.6pF ThnFlm0201 .1pF Tol; Category: Cap; ComponentLink2Description: Datasheet; Octopart: https://octopart.com/0201zk5r6bbstr-avx-596551; RoHS: TRUE; Automotive: Yes; Height: 0.275mm; Package: 0; Temperature Range High: +125°C; Digikey Description: CAP THIN FILM 5.6PF 10V 0201
footprint FP-0201ZK5R6BBSTR-MFG
pins: 1, 2

## CMP-2010-01106-2
designator C?, comment Capacitance: 33pF  (hidden comment: GRM0335C1H330JA01D)
33 pF ±5% 50V Ceramic Capacitor C0G, NP0 0201 (0603 Metric); Termination: SMD/SMT; Case/Package: 0201; Voltage Rating (DC): 50V; Width: 0.3mm; Depth: 0.3mm; Package Quantity: 15000; Lead Free: Lead Free; Dielectric: C0G; Thickness: 0.013inch; Max Operating Temperature: 125°C; Case Code (Metric): 0603; Radiation Hardening: No; Voltage: 50V; Case Code (Imperial): 0201; Mount: Surface Mount; Min Operating Temperature: -55°C; Height: 0.3mm; Tolerance: 5%; Voltage Rating: 50V; Packaging: Tape and Reel; Length: 0.6mm
footprint FP-GRM033-0_03-IPC_A
pins: 1, 2

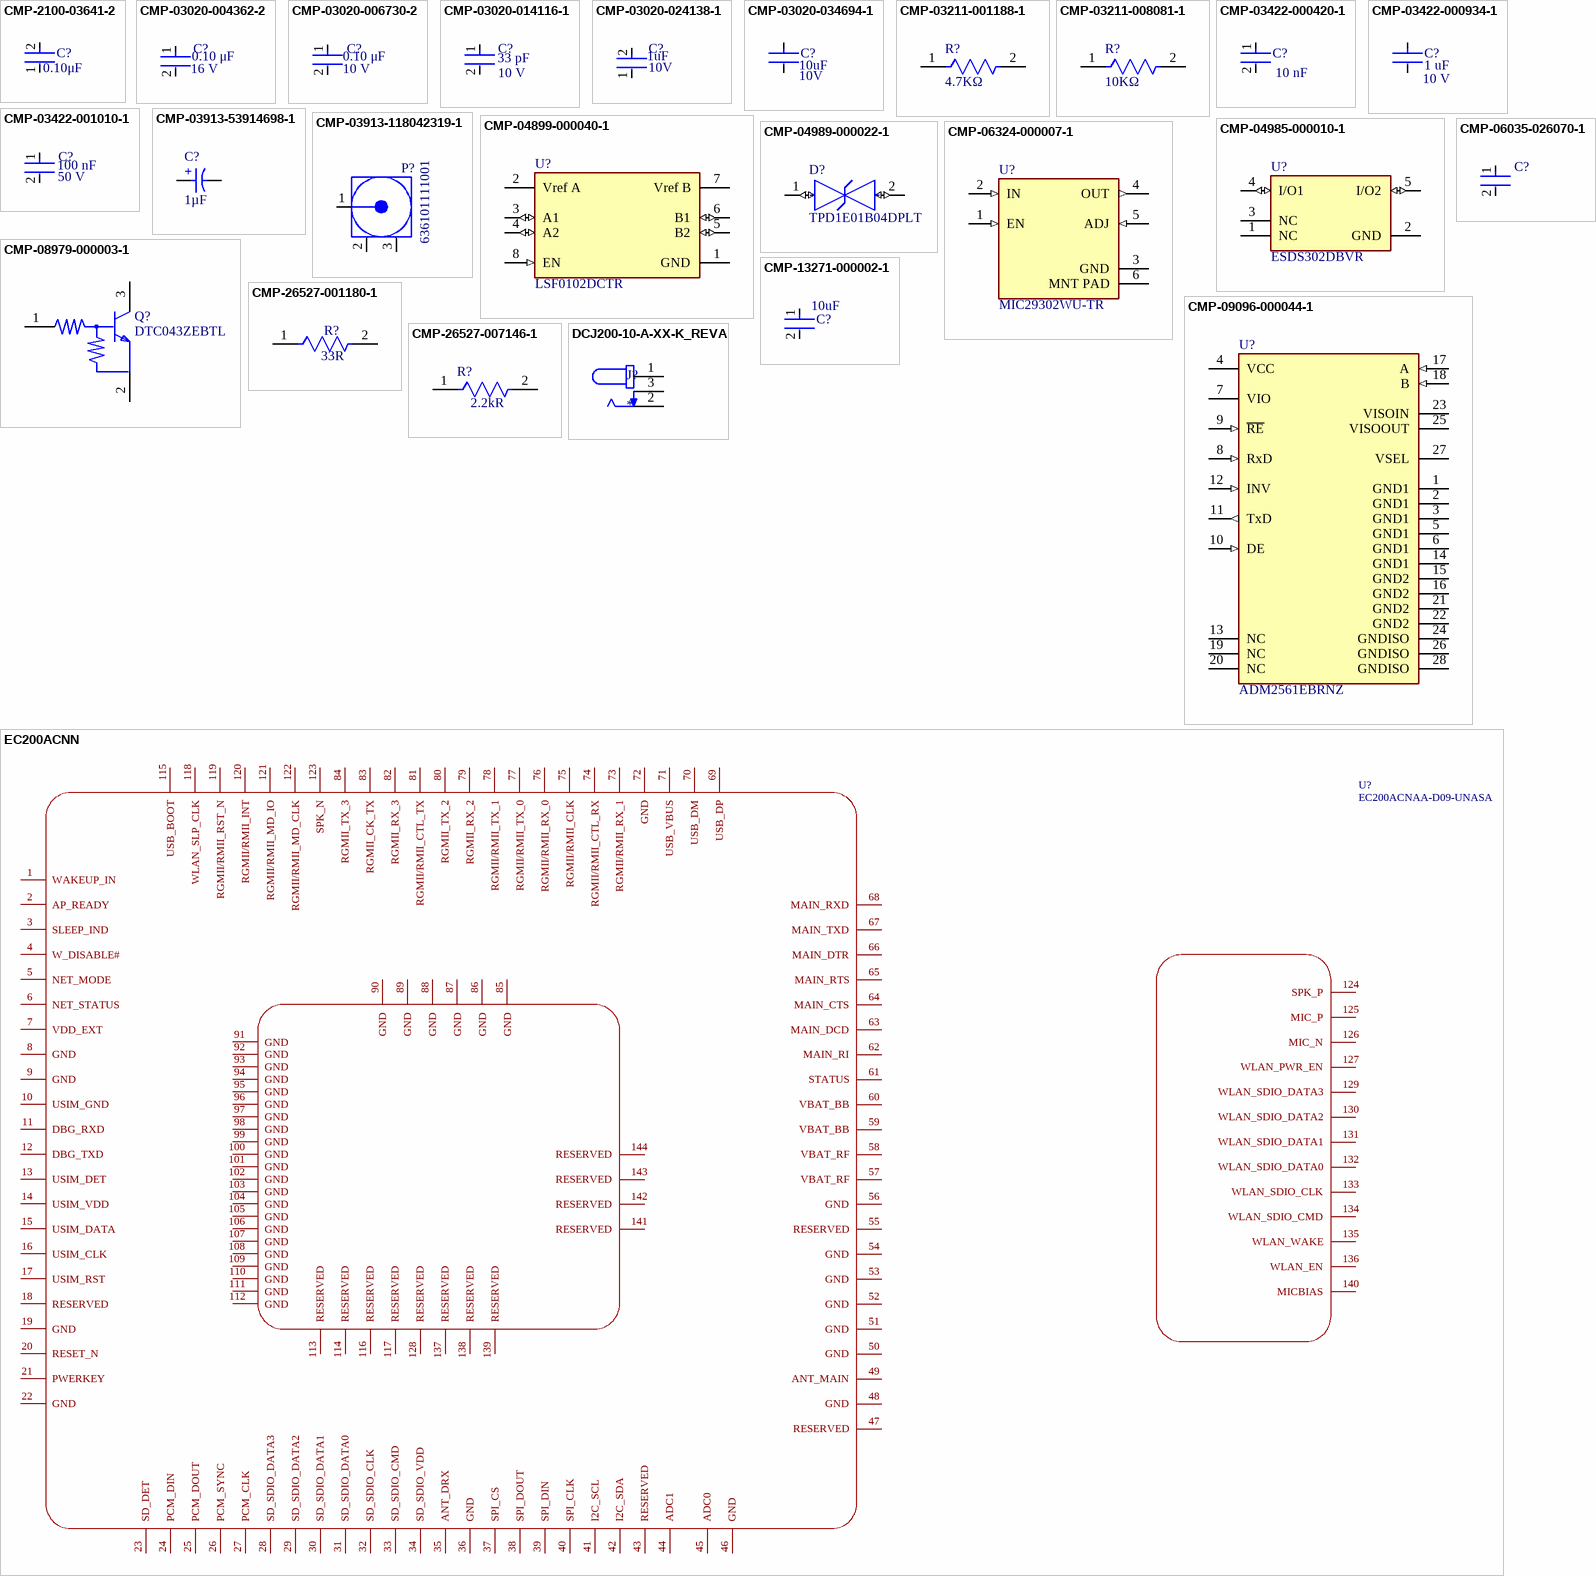
[diagram p1: symbols CMP-2100-03641-2 to EC200ACNN]

## CMP-2100-03641-2
designator C?, comment Capacitance: 0.10μF  (hidden comment: GRM155R71C104KA88D)
0.1 µF ±10% 16V Ceramic Capacitor X7R 0402 (1005 Metric); Manufacturer: Murata; Standoff Height: 0mm; Voltage Rating: 16Vdc; Value: 0.10μF; RoHS: TRUE; Manufacturer Part Number: GRM155R71C104KA88D; Temperature Characteristic: X7R; Tolerance: 10%; Octopart: https://octopart.com/grm155r71c104ka88d-murata-196880; Digikey Description: CAP CER 0.1UF 16V X7R 0402; Device Class L3: Ceramic Capacitors; Height: 0.55mm; ComponentLink2Description: Datasheet; Temperature Range Low: -55°C; Ipc Land Pattern Name: CAPC10050X219; ComponentLink2URL: https://search.murata.co.jp/Ceramy/image/img/A01X/G101/ENG/GRM155R71H471KA01-01A.pdf; Device Class L1: Passive Components; Lead Free: yes; Category: Cap; Package: GRM15; Temperature: -55°C to +125°C; Device Class L2: Capacitors; Material: Ceramic; Temperature Range High: +125°C; Mouser Description: 0402 0.1 uF 16V ±10 % Tolerance X7R SMT Multilayer Ceramic Capacitor
footprint FP-GRM15-MFG
pins: 1, 2

## CMP-03020-004362-2
designator C?, comment Capacitance: 0.10 μF  Voltage Rating: 16 V  (hidden comment: C0402C104M4RAC7411)
0.1 µF ±20% 16V Ceramic Capacitor X7R 0402 (1005 Metric); Manufacturer: Kemet; Value: 0.10 μF; Temperature Coefficient: 15%; Tolerance: 0.2; Category: Cap; ComponentLink2Description: Datasheet; Temperature Characteristic: X7R; Automotive: No; Package: C0402-BB; ComponentLink2URL: https://content.kemet.com/datasheets/KEM_C1002_X7R_SMD.pdf; Lead Free: Yes; Temperature Range Low: -55°C; Device Class L3: Ceramic Capacitors; Height: 0.55mm; Device Class L2: Capacitors; Temperature Range High: +125°C; Device Class L1: Passive Components; Ipc Land Pattern Name: CAPC10050X50; RoHS: TRUE; Material: Ceramic; Manufacturer Part Number: C0402C104M4RAC7411; Temperature: -55°C to +125°C; Octopart: https://octopart.com/c0402c104m4rac7411-kemet-22426895
footprint FP-C0402-BB-MFG
footprint FP-C0402-BB-IPC_C
footprint FP-C0402-BB-IPC_B
footprint FP-C0402-BB-IPC_A
pins: 1, 2

## CMP-03020-006730-2
designator C?, comment Capacitance: 0.10 μF  Voltage Rating: 10 V  (hidden comment: C0402C104M8RAC7411)
0.1 µF ±20% 10V Ceramic Capacitor X7R 0402 (1005 Metric); Manufacturer: Kemet; Value: 0.10 μF; Temperature Coefficient: 15%; Tolerance: 0.2; ComponentLink2Description: Datasheet; RoHS: TRUE; Temperature Characteristic: X7R; Temperature Range High: +125°C; Category: Cap; Temperature Range Low: -55°C; Automotive: No; Temperature: -55°C to +125°C; ComponentLink2URL: https://content.kemet.com/datasheets/KEM_C1002_X7R_SMD.pdf; Height: 0.55mm; Manufacturer Part Number: C0402C104M8RAC7411; Package: C0402-BB; Octopart: https://octopart.com/c0402c104m8rac7411-kemet-91920895; Lead Free: Yes; Material: Ceramic; Device Class L3: Ceramic Capacitors; Ipc Land Pattern Name: CAPC10050X50; Device Class L2: Capacitors; Device Class L1: Passive Components
footprint FP-C0402-BB-MFG
footprint FP-C0402-BB-IPC_C
footprint FP-C0402-BB-IPC_B
footprint FP-C0402-BB-IPC_A
pins: 1, 2

## CMP-03020-014116-1
designator C?, comment Voltage Rating: 10 V  Capacitance: 33 pF  (hidden comment: C0402C330J8GACTU)
33 pF ±5% 10V Ceramic Capacitor C0G, NP0 0402 (1005 Metric); Manufacturer: Kemet; Tolerance: 0.05; Value: 33 pF; Temperature Coefficient: 15%; Device Class L3: Ceramic Capacitors; Mouser Description: Cap, 33PF, 10V, Mlcc, 0402; Category: Cap; Device Class L1: Passive Components; Temperature: -55°C to +125°C; Height: 0.55mm; Package: C0402-BB; Lead Free: Yes; ComponentLink2URL: https://content.kemet.com/datasheets/KEM_C1002_X7R_SMD.pdf; Octopart: https://octopart.com/c0402c330j8gactu-kemet-85362699; ComponentLink2Description: Datasheet; Ipc Land Pattern Name: CAPC10050X50; Material: Ceramic; RoHS: TRUE; Manufacturer Part Number: C0402C330J8GACTU; Automotive: No; Temperature Range High: +125°C; Device Class L2: Capacitors; Temperature Characteristic: C0G; Temperature Range Low: -55°C
footprint FP-C0402-BB-MFG
pins: 1, 2

## CMP-03020-024138-1
designator C?, comment Capacitance: 1uF  Voltage Rating: 10V  (hidden comment: C0603C105K8RACAUTO)
1 µF ±10% 10V Ceramic Capacitor X7R 0603 (1608 Metric); Manufacturer: KEMET; Temperature Coefficient: 15%; Automotive Grade: Grade 1; Value: 1uF; Device Class L3: Ceramic Capacitors; Octopart: https://octopart.com/c0603c105k8racauto-kemet-91328492; Device Class L2: Capacitors; Lead Free: Yes; Device Class L1: Passive Components; ComponentLink2URL: https://content.kemet.com/datasheets/KEM_C1023_X7R_AUTO_SMD.pdf; Temperature Characteristic: X7R; Temperature Range Low: -55°C; Temperature Range High: +125°C; Material: Ceramic; Category: Cap; Ipc Land Pattern Name: CAPC16080X80; Tolerance: 10%; Package: C0603-CJ; Manufacturer Part Number: C0603C105K8RACAUTO; ComponentLink2Description: Datasheet; Temperature: -55°C to +125°C; RoHS: TRUE; Height: 0.95mm; Automotive: Yes; Digikey Description: CAP CER 0603 1UF 10V X7R 10%
footprint FP-C0603-CJ-MFG
pins: 1, 2

## CMP-03020-034694-1
designator C?, comment Capacitance: 10uF  Voltage Rating: 10V  (hidden comment: C0805X106K8RACAUTO)
10 µF ±10% 10V Ceramic Capacitor X7R 0805 (2012 Metric); Case/Package: 0805; Min Operating Temperature: -55°C; Max Operating Temperature: 125°C; RoHS Compliant: Yes; Ratings: AEC-Q200; Mount: Surface Mount; Features: Soft Termination; Packaging: Cut Tape; Case Code (Metric): 2012; Case Code (Imperial): 0805; Tolerance: 10%
footprint FP-C0805X106K8RACAUTO-MFG
footprint FP-C0805X106K8RACAUTO-IPC_C
footprint FP-C0805X106K8RACAUTO-IPC_B
footprint FP-C0805X106K8RACAUTO-IPC_A
pins: 1, 2

## CMP-03211-001188-1
designator R?, comment Resistance: 4.7KΩ  (hidden comment: CRGCQ0402F4K7)
4.7 kOhms ±1% 0.063W, 1/16W Chip Resistor 0402 (1005 Metric) Automotive AEC-Q200, Moisture Resistant Thick Film; Manufacturer: TE Connectivity; Temperature Coefficient: ±100ppm/°C; Value: 4.7KΩ; Power Rating: 0.0625W; Voltage Rating: 50V; Tolerance: 0.01; Series: CRGCQ; Package: CRGCQ0402; Mouser Description: Res Thick Film 0402 4.7K Ohm 1% 0.063W(1/16W) ±100ppm/C Pad SMD Automotive T/R; Composition: Thick Film; ComponentLink2URL: https://www.te.com/commerce/DocumentDelivery/DDEController?Action=showdoc&DocId=Data+Sheet%7F1773204-3%7F1%7Fpdf%7FEnglish%7FENG_DS_1773204-3_1.pdf%7F4-2176347-846; Manufacturer Part Number: CRGCQ0402F4K7; Temperature Range Low: -55°C; Digikey Description: CRGCQ 0402 4K7 1%; Temperature Range High: +155°C; Device Class L3: Chip SMD Resistors; Lead Free: Yes; Octopart: https://octopart.com/crgcq0402f4k7-te+connectivity-91017975; Temperature: -55°C to +155°C; Category: Res; Ambient Temperature Range High: +70°C; RoHS: TRUE; Device Class L1: Passive Components; Height: 0.4mm; Automotive: Yes; Ipc Land Pattern Name: RESC10050X35; ComponentLink2Description: Datasheet; Device Class L2: Resistors
footprint FP-CRGCQ0402-IPC_C
footprint FP-CRGCQ0402-IPC_B
footprint FP-CRGCQ0402-IPC_A
pins: 1, 2

## CMP-03211-008081-1
designator R?, comment Resistance: 10KΩ  (hidden comment: CRGCQ0402J10K)
10 kOhms ±5% 0.063W, 1/16W Chip Resistor 0402 (1005 Metric) Automotive AEC-Q200, Moisture Resistant Thick Film; Manufacturer: TE Connectivity; Power Rating: 0.0625W; Tolerance: 0.05; Voltage Rating: 50V; Temperature Coefficient: ±100ppm/°C; Value: 10KΩ; RoHS: TRUE; Octopart: https://octopart.com/crgcq0402j10k-te+connectivity-91017993; ComponentLink2URL: https://www.te.com/commerce/DocumentDelivery/DDEController?Action=showdoc&DocId=Data+Sheet%7F1773204-3%7F1%7Fpdf%7FEnglish%7FENG_DS_1773204-3_1.pdf%7F4-2176347-923; Package: CRGCQ0402; Mouser Description: Res Thick Film 0402 10K Ohm 5% 0.063W(1/16W) ±100ppm/C Pad SMD Automotive T/R; Temperature Range High: +155°C; Composition: Thick Film; Automotive: Yes; Category: Res; Temperature Range Low: -55°C; Height: 0.4mm; Device Class L3: Chip SMD Resistors; Device Class L2: Resistors; Digikey Description: CRGCQ 0402 10K 5%; Ambient Temperature Range High: +70°C; Device Class L1: Passive Components; Lead Free: Yes; ComponentLink2Description: Datasheet; Manufacturer Part Number: CRGCQ0402J10K; Temperature: -55°C to +155°C; Series: CRGCQ; Ipc Land Pattern Name: RESC10050X35
footprint FP-CRGCQ0402-IPC_C
footprint FP-CRGCQ0402-IPC_B
footprint FP-CRGCQ0402-IPC_A
pins: 1, 2

## CMP-03422-000420-1
designator C?, comment value 10 nF  (hidden comment: CC0402KPX7R7BB103)
10000 pF ±10% 16V Ceramic Capacitor X7R 0402 (1005 Metric); Manufacturer: YAGEO; Tolerance: 0.1; Automotive Grade: NA; Temperature Coefficient: 30ppm/°C; Automotive: No; Capacitance: 10 nF; Device Class L1: Passive Components; Temperature Range Low: -55°C; Ipc Land Pattern Name: CAPC10050X50; Temperature Characteristic: X7R; Voltage Rating: 16 V; Lead Free: Yes; Footprint Url: http://www.yageo.com/exep/pages/download/literatures/UPY-C_GEN_24.pdf; Octopart: https://octopart.com/cc0402kpx7r7bb103-yageo-12885102; RoHS: TRUE; Height: 0.55mm; Device Class L3: Ceramic Capacitors; Mouser Description: Multilayer Ceramic Capacitors MLCC - SMD/SMT 10nF 16V X7R 10%; Package: CC0402; ComponentLink2Description: Datasheet; Category: Cap; Material: Ceramic; ComponentLink2URL: http://www.yageo.com/documents/recent/UPY-GP_NP0_16V-to-50V_16.pdf; Temperature: -55°C to +125°C; Manufacturer Part Number: CC0402KPX7R7BB103; Temperature Range High: +125°C; Device Class L2: Capacitors
footprint FP-CC0402-MFG
footprint FP-CC0402-IPC_C
footprint FP-CC0402-IPC_B
footprint FP-CC0402-IPC_A
pins: 1, 2

## CMP-03422-000934-1
designator C?, comment Voltage Rating: 10 V  Capacitance: 1 uF  (hidden comment: CC0805KRX5R6BB105)
1 µF ±10% 10V Ceramic Capacitor X5R 0805 (2012 Metric); Manufacturer: Yageo; Value: 1 uF; Tolerance: 0.1; Height: 0.95mm; Automotive: No; Category: Cap; Temperature Characteristic: X5R; Footprint Url: http://www.yageo.com/exep/pages/download/literatures/UPY-C_GEN_24.pdf; Temperature Range Low: -30°C; Digikey Description: CAP CER 1UF 10V X5R 0805; Temperature Range High: +85°C; ComponentLink2Description: Datasheet; Ipc Land Pattern Name: CAPC200125X85; Octopart: https://octopart.com/cc0805krx5r6bb105-yageo-40952313; Device Class L3: Ceramic Capacitors; Temperature: -30°C to +85°C; RoHS: TRUE; Lead Free: Yes; Device Class L1: Passive Components; Mouser Description: Multilayer Ceramic Capacitors MLCC - SMD/SMT 1.0uF 10V X5R 10%; ComponentLink2URL: http://www.yageo.com/documents/recent/UPY-GPHC_Y5V_6.3V-to-50V_8.pdf; Material: Ceramic; Package: CC0805-0.85; Device Class L2: Capacitors; Manufacturer Part Number: CC0805KRX5R6BB105
footprint FP-CC0805-0_85-MFG
footprint FP-CC0805-0_85-IPC_C
footprint FP-CC0805-0_85-IPC_B
footprint FP-CC0805-0_85-IPC_A
pins: 1, 2

## CMP-03422-001010-1
designator C?, comment Capacitance: 100 nF  Voltage Rating: 50 V  (hidden comment: CC0402KRX7R9BB104)
0.1 µF ±10% 50V Ceramic Capacitor X7R 0402 (1005 Metric); Manufacturer: YAGEO; Temperature Coefficient: 30ppm/°C; Value: 100 nF; Automotive Grade: NA; Tolerance: 0.1; Footprint Url: http://www.yageo.com/exep/pages/download/literatures/UPY-C_GEN_24.pdf; Category: Cap; Package: CC0402; ComponentLink2Description: Datasheet; Material: Ceramic; Temperature Characteristic: X7R; Device Class L1: Passive Components; Device Class L2: Capacitors; Digikey Description: CAP CER 0.1UF 50V X7R 0402; Octopart: https://octopart.com/cc0402krx7r9bb104-yageo-56536067; Device Class L3: Ceramic Capacitors; Height: 0.55mm; Temperature: -55°C to +125°C; Temperature Range High: +125°C; ComponentLink2URL: http://www.yageo.com/documents/recent/UPY-GP_NP0_16V-to-50V_16.pdf; Temperature Range Low: -55°C; RoHS: TRUE; Ipc Land Pattern Name: CAPC10050X50; Lead Free: Yes; Automotive: No; Manufacturer Part Number: CC0402KRX7R9BB104
footprint FP-CC0402-MFG
footprint FP-CC0402-IPC_C
footprint FP-CC0402-IPC_B
footprint FP-CC0402-IPC_A
pins: 1, 2

## CMP-03913-53914698-1
designator C?, comment Capacitance: 1µF  (hidden comment: 865230640005)
1 µF 50 V Aluminum Electrolytic Capacitors Radial, Can - SMD 5000 Hrs @ 105°C; NexarPartId: 53914698; Voltage Rating (DC): 50V; Tolerance: 20%; Ripple Current (AC): 6.2mA; Leakage Current: 3µA; Polarity: Polar; Insulation Resistance: 16.6667MΩ; Life (Hours): 5000hours; Case/Package: Radial; Width: 4.3mm; Mount: Surface Mount; RoHS: Compliant; Packaging: Tape & Reel (TR); Length: 5.5mm; REACH SVHC: Unknown; Height: 5.5mm; Max Operating Temperature: 105°C; Min Operating Temperature: -40°C; Height - Seated (Max): 5.5118mm; Ripple Current: 6.2mA; Voltage Rating: 50V; Diameter: 4mm
footprint WCAP-AS5H_D4H5.5 (WCAP-AS5H Aluminum Electrolytic Capacitors)
pins: 1 P, 2 N
text: +

## CMP-03913-118042319-1
designator P?, comment 636101111001
Ultra Miniature (UM) Connector Receptacle, Male Pin 50 Ohms Surface Mount Solder; NexarPartId: 118042319; Insulation Resistance: 500MΩ; Impedance: 50Ω; Insertion Loss (dB): 0.3dB; Max Operating Temperature: 90°C; Packaging: Tape and Reel; Min Operating Temperature: -40°C; RoHS: Compliant
footprint 63610111x001 (Rf Conn, Umrf, Jack, 50 Ohm, Pcb Rohs Compliant: Yes)
pins: 1 Signal "Signal Pin", 2 GND, 3 GND

## CMP-04899-000040-1
designator U?, comment LSF0102DCTR
Voltage Level Translator Bidirectional 1 Circuit 2 Channel SM8; Number of Circuits: 1; Propagation Delay: 1.3ns; Data Rate: 200Mbps; Low Level Output Current: 64mA; Number of Bits: 2; Weight: 0.000705oz; Mount: Surface Mount; Number of Pins: 8; Logic Function: Translator; Package Quantity: 3000; Min Operating Temperature: -40°C; Lead Free: Lead Free; Packaging: Tape and Reel; Case/Package: SSOP; Channel Type: Bidirectional; RoHS Compliant: Yes; High Level Output Current: 64mA; Radiation Hardening: No; Max Operating Temperature: 125°C
footprint FP-DCT0008A-MFG
footprint FP-DCT0008A-IPC_A
footprint FP-DCT0008A-IPC_C
footprint FP-DCT0008A-IPC_B
pins: 1 GND (power), 2 Vref A, 3 A1 (io), 4 A2 (io), 5 B2 (io), 6 B1 (io), 7 Vref B, 8 EN (in)

## CMP-04985-000010-1
designator U?, comment ESDS302DBVR
3V (Typ) Clamp 12A (8/20µs) Ipp Tvs Diode Surface Mount SOT-23-5; RoHS Compliant: Yes
footprint FP-DBV0005A-IPC_A
footprint FP-DBV0005A-IPC_B
footprint FP-DBV0005A-MFG
footprint FP-DBV0005A-IPC_C
pins: 1 NC, 2 GND (power), 3 NC, 4 I/O1 (io), 5 I/O2 (io)

## CMP-04989-000022-1
designator D?, comment TPD1E01B04DPLT
15V (Typ) Clamp 2.5A (8/20µs) Ipp Tvs Diode Surface Mount 2-X2SON (0.6x0.3); Operating Supply Voltage: 3.6V; Interface: USB; Number of Channels: 1; Max Operating Temperature: 125°C; Number of Pins: 2; Packaging: Cut Tape; REACH SVHC: No SVHC; Clamping Voltage: 15V; Min Operating Temperature: -40°C; RoHS Compliant: Yes; Lead Free: Lead Free
footprint FP-DPL0002A-MFG
pins: 1 IO (io), 2 IO (io)

## CMP-06035-026070-1
designator C?, comment GRM155R61A106ME11D  (value not drawn)
10 µF ±20% 10V Ceramic Capacitor X5R 0402 (1005 Metric)
footprint FP-GRM155-0_2-IPC_A
footprint FP-GRM155-0_2-IPC_C
footprint FP-GRM155-0_2-IPC_B
footprint FP-GRM155-0_2-MFG
pins: 1, 2

## CMP-06324-000007-1
designator U?, comment MIC29302WU-TR
Linear Voltage Regulator IC Positive Adjustable 1 Output 3A TO-263-5; Manufacturer: Microchip; Output Voltage: 3.3-12V; Output Type: AdjustableProgrammable; Max Junction Temp: +125°C; Standoff Height: 0mm; Accuracy Percentage: 1%; Max Supply Voltage: 26V; Nominal Supply Current: 10-37mA; Number Of Outputs: 1; Dropout Voltage: 370mV; Min Supply Voltage: 2.25V; ComponentLink2URL: http://ww1.microchip.com/downloads/en/DeviceDoc/MIC2915x-30x-50x-75x-High-Current-Low-Dropout-Regulators-DS20005685B.pdf; Device Class L1: Integrated Circuits (ICs); Digikey Description: IC REG LINEAR POS ADJ 3A TO263-5; Device Class L2: Power Management ICs; Lead Free: Yes; Mouser Description: LDO Voltage Regulators; Package: C04-012; Temperature: -40°C to +125°C; ComponentLink2Description: Datasheet; Temperature Range High: +125°C; Automotive: No; Device Class L3: Voltage Regulators - Linear; Category: IC; Temperature Range Low: -40°C; RoHS: TRUE; Output Current: 3A; Octopart: https://octopart.com/mic29302wu-tr-microchip-66801318; Manufacturer Part Number: MIC29302WU-TR; Height: 0.2inch
footprint FP-C04-012-MFG
pins: 1 EN (in), 2 IN (in), 3 GND (power), 4 OUT (out), 5 ADJ (in), 6 MNT PAD

## CMP-08979-000003-1
designator Q?, comment DTC043ZEBTL
Pre-Biased Bipolar Transistor (BJT) NPN - Pre-Biased 50 V 100 mA 250 MHz 150 mW Surface Mount EMT3F (SOT-416FL); Manufacturer: Rohm; Max Collector Current: 100mA; Gain Bandwidth Product: 250MHz; Hfe Min: 80; Max Junction Temp: +150°C; Number Of Npn: 1; Power Dissipation: 150mW; Standoff Height: 0mm; Package: EMT3F; Category: Trans; Temperature Range High: +150°C; Automotive: No; Device Class L3: BJTs; Mouser Description: In a Pack of 250, ROHM DTC043ZEBTL NPN Transistor, 100 mA, 3-Pin SOT-416FL; Manufacturer Part Number: DTC043ZEBTL; Height: 0.85mm; Digikey Description: TRANS PREBIAS NPN 50V EMT3F; ComponentLink2Description: Datasheet; Device Class L2: Transistors; Lead Free: Yes; Temperature: to +150°C; ComponentLink2URL: https://fscdn.rohm.com/en/products/databook/datasheet/discrete/transistor/digital/dtc043zebtl-e.pdf; Number Of Elements: 1; Device Class L1: Discrete Semiconductors; RoHS: TRUE; Octopart: https://octopart.com/dtc043zebtl-rohm-23794861
footprint FP-EMT3F-MFG
pins: 1 IN(BASE), 2 GND(EMITTER), 3 OUT(COLLECTOR)

## CMP-09096-000044-1
designator U?, comment ADM2561EBRNZ
2/2 Transceiver Full, Half RS422, RS485 28-SOIC-W-FP
footprint FP-RN-28-1-IPC_A
footprint FP-RN-28-1-IPC_B
footprint FP-RN-28-1-IPC_C
pins: 1 GND1 (power), 2 GND1 (power), 3 GND1 (power), 4 VCC (power), 5 GND1 (power), 6 GND1 (power), 7 VIO (power), 8 RxD (in), 9 ~{RE} (in), 10 DE (in), 11 TxD (out), 12 INV (in), 13 NC, 14 GND1 (power), 15 GND2 (power), 16 GND2 (power), 17 A (in), 18 B (in), 19 NC, 20 NC, 21 GND2 (power), 22 GND2 (power), 23 VISOIN (power), 24 GNDISO (power), 25 VISOOUT (power), 26 GNDISO (power), 27 VSEL (power), 28 GNDISO (power)

## CMP-13271-000002-1
designator C?, comment value 10uF  (hidden comment: CL05A106MP5NUNC)
10 µF ±20% 10V Ceramic Capacitor X5R 0402 (1005 Metric); Manufacturer: Samsung; Temperature Coefficient: 15%; Octopart: https://octopart.com/cl05a106mp5nunc-samsung-22457395; Voltage Rating: 10V; RoHS: TRUE; Height: 0.7mm; Digikey Description: CAP CER 10UF 10V X5R 0402; Automotive: No; Package: CL05A106MP5NUNC; Device Class L1: Passive Components; Tolerance: 20%; Capacitance: 10uF; Temperature Range High: +85°C; ComponentLink2Description: Datasheet; Device Class L2: Capacitors; Temperature Characteristic: X5R; Manufacturer Part Number: CL05A106MP5NUNC; Temperature: -55°C to +85°C; Material: Ceramic; ComponentLink2URL: http://www.samsungsem.com/kr/support/product-search/mlcc/__icsFiles/afieldfile/2019/05/10/19-CL05A106MP5NUNC.pdf; Device Class L3: Ceramic Capacitors; Category: Cap; Temperature Range Low: -55°C; Ipc Land Pattern Name: CAPC10050X50; Lead Free: Yes
footprint FP-CL05A106MP5NUNC-MFG
footprint FP-CL05A106MP5NUNC-IPC_C
footprint FP-CL05A106MP5NUNC-IPC_B
footprint FP-CL05A106MP5NUNC-IPC_A
pins: 1, 2